# Altium footprint library 50_Pin_Connector.PcbLib: 2 footprints
Each footprint in its own frame and in the unit in brackets; x right, y up, seen from the top. Pads: shape width x height; smd on the part's side, far side on the other; paste and mask are expansions set on the pad; w line width, h text height; cw(c..) or ccw(c..) is an arc to the next point about the centre after c.
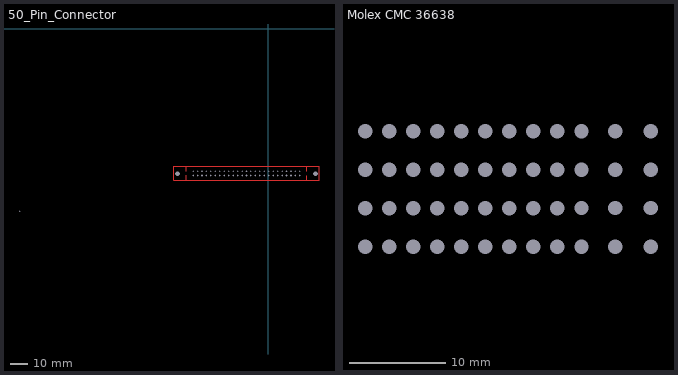
[diagram p0: the footprints below, top view; thin cyan lines are the x and y axes]

## 50_Pin_Connector [mil]
pads (88):
  round 0 hole 35.04: 1(-1684,-3195) 1(-1684,-3195) 2(-5580,-4095) 2(-1584,-3195) 2(-1584,-3195) 3(-1484,-3195) 3(-1484,-3195) 4(-1384,-3195) 4(-1384,-3195) 5(-1284,-3195) 5(-1284,-3195) 6(-1184,-3195) 6(-1184,-3195) 7(-1084,-3195) 7(-1084,-3195) 8(-984,-3195) 8(-984,-3195) 9(-884,-3195) 9(-884,-3195) 10(-784,-3195) 10(-784,-3195) 11(-684,-3195) 11(-684,-3195) 12(-584,-3195) 12(-584,-3195) 13(-484,-3195) 13(-484,-3195) 14(-384,-3195) 14(-384,-3195) 15(-284,-3195) 15(-284,-3195) 16(-184,-3195) 16(-184,-3195) 16(-184,-3195) 16(-184,-3195) 17(-84,-3195) 17(-84,-3195) 17(-84,-3195) 17(-84,-3195) 18(16,-3195) 18(16,-3195) 18(16,-3195) 18(16,-3195) 19(116,-3195) 19(116,-3195) 19(116,-3195) 19(116,-3195) 20(216,-3195) 20(216,-3195) 20(216,-3195) 20(216,-3195) 21(316,-3195) 22(416,-3195) 23(516,-3195) 24(616,-3195) 25(716,-3195) 26(-1684,-3295) 27(-1584,-3295) 28(-1484,-3295) 29(-1384,-3295) 30(-1284,-3295) 31(-1184,-3295) 32(-1084,-3295) 33(-984,-3295) 34(-884,-3295) 35(-784,-3295) 36(-684,-3295) 36(-684,-3295) 37(-584,-3295) 37(-584,-3295) 38(-484,-3295) 38(-484,-3295) 39(-384,-3295) 39(-384,-3295) 40(-284,-3295) 40(-284,-3295) 41(-184,-3295) 42(-84,-3295) 43(16,-3295) 44(116,-3295) 45(216,-3295) 46(316,-3295) 47(416,-3295) 48(516,-3295) 49(616,-3295) 50(716,-3295)
  round 0 hole 105.91: 51(1066,-3255) 52(-2034,-3255)
Top Layer:
  lines w10: -1834,-3295 -1834,-3405 ; -1834,-3195 -1834,-3085 ; 866,-3405 866,-3300 ; 866,-3200 866,-3090 ; -1834,-3405 -2114,-3405 -2114,-3085 -1834,-3085 ; -1834,-3405 -1684,-3405 216,-3405 296,-3405 721,-3405 731,-3405 791,-3405 1146,-3405 1146,-3085 791,-3085 731,-3085 716,-3085 291,-3085 -1684,-3085 -1834,-3085
3D body: height 50, standoff 0, extent -2114,-3409.97 1145.96,-3090.01

## Molex CMC 36638 [mm] "48 Pin Connector"
pads (48):
  round 0 hole 1.5: 1(24,76) 2(26.5,76) 3(29,76) 4(31.5,76) 5(34,76) 6(36.5,76) 7(39,76) 8(41.5,76) 9(44,76) 10(24,72) 11(26.5,72) 12(29,72) 13(31.5,72) 14(34,72) 15(36.5,72) 16(39,72) 17(41.5,72) 18(44,72) 19(24,68) 20(26.5,68) 21(29,68) 22(31.5,68) 23(34,68) 24(36.5,68) 25(39,68) 26(41.5,68) 27(44,68) 28(24,64) 29(26.5,64) 30(29,64) 31(31.5,64) 32(34,64) 33(36.5,64) 34(39,64) 35(41.5,64) 36(44,64) 37(46.507,75.997) 38(46.507,72.009) 39(46.507,68.021) 40(46.507,64.008) 41(50.013,75.997) 42(50.013,72.009) 43(50.013,68.021) 44(50.013,64.008) 45(53.721,75.997) 46(53.721,72.009) 47(53.721,68.021) 48(53.721,64.008)
3D body "Latch_Connector.stp": height 21.73, standoff -11.17, extent 9.663,61.001 68.163,117.221